# Altium schematic symbol library 581-01-60-001.SchLib: 1 symbol
Pins are listed as number, name and electrical type; pins without a type are passive.

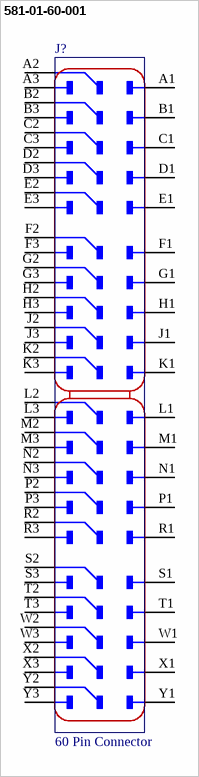
[diagram p0: symbol 581-01-60-001]

## 581-01-60-001
designator J?  Type: 60 Pin Connector  (hidden comment: 581-01-60-001)
CONNECTOR; Manufacturer: Cinch; CMW P/N: 222-1244; Value: 20x3; Supplier 1 Part Number: 26K0880; HelpURL: http://www.cinch.com/products/transportation/15-mm-shs-headers; Manufacturer P/N: 581-01-60-001; Package: PKR/.157/2; Supplier 1: Newark
footprint CONN3x20_PKR (Cinch 60 Pin Connector 581-01-60-001)
pins: A1 DOUT0, A2 PWB, A3 PWA, B1 DOUT1, B2 DIN0, B3 AIN0, C1 DOUT2, C2 DIN1, C3 AIN1, D1 DOUT3, D2 DIN2, D3 AIN2, E1 DOUT4, E2 DIN3, E3 AIN3, F1 DOUT5, F2 DIN4, F3 AIN4, G1 DOUT6, G2 DIN5, G3 AIN5, H1 DOUT7, H2 DIN6, H3 AIN6, J1 TP6, J2 DIN7, J3 AIN7, K1 TP7, K2 TP0, K3 AIN8, L1 TP8, L2 TP1, L3 AIN9, M1 TP9, M2 TP2, M3 AIN10, N1 TP10, N2 TP3, N3 AIN11, P1 TP11, P2 TP4, P3 AIN12, R1 TP12, R2 TP5, R3 PAIN, S1 TP13, S2 DLED, S3 TTLIN, T1 TP14, T2 TTLOUT, T3 +5OUT, W1 TP15, W2 GNDA, W3 GND, X1 LAUX0, X2 12VPR, X3 GND, Y1 LAUX1, Y2 12VO, Y3 12VO
1 alternate drawing of the same symbol